# Altium schematic symbol library FTDI.SchLib: 2 symbols
Pins are listed as number, name and electrical type; pins without a type are passive.

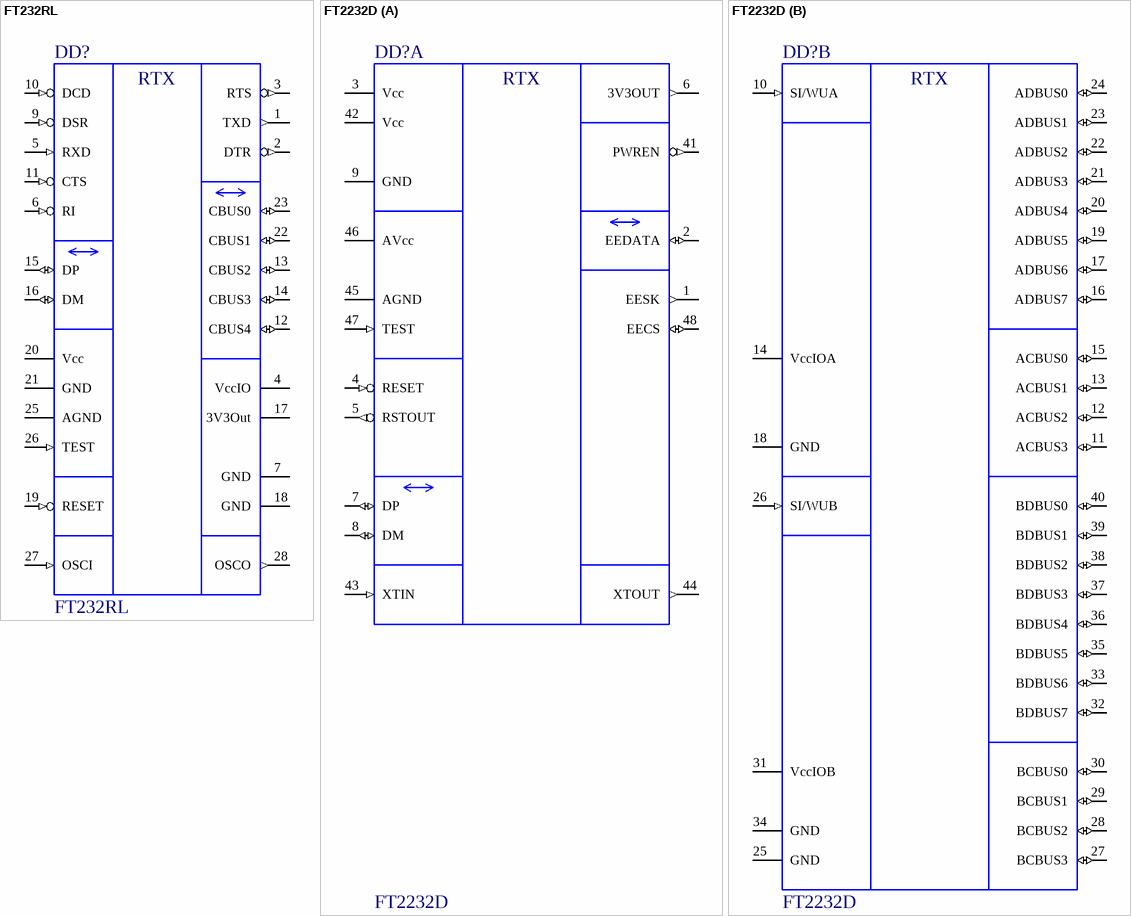
[diagram p0: symbols FT232RL to FT2232D]

## FT232RL
designator DD?
USB to UART converter; ValueSch: FT232RL
pins: 1 TXD (out), 2 DTR (out), 3 RTS (out), 4 VccIO (power), 5 RXD (in), 6 RI (in), 7 GND (power), 8 NC hidden, 9 DSR (in), 10 DCD (in), 11 CTS (in), 12 CBUS4 (io), 13 CBUS2 (io), 14 CBUS3 (io), 15 DP (io), 16 DM (io), 17 3V3Out (power), 18 GND (power), 19 RESET (in), 20 Vcc (power), 21 GND (power), 22 CBUS1 (io), 23 CBUS0 (io), 24 NC hidden, 25 AGND (power), 26 TEST (in), 27 OSCI (in), 28 OSCO (out)
text: RTX

## FT2232D
designator DD?
Dual USB to Serial UART/FIFO; ValueSch: FT2232D
part A pins: 1 EESK (out) "Clock signal to EEPROM", 2 EEDATA (io) "EEPROM Data I/O", 3 Vcc (power), 4 RESET (in) "Reset", 5 RSTOUT (out) "output of the internal Reset Generator", 6 3V3OUT (out) "Internal LDO output", 7 DP (io) "USP Data Signal Plus", 8 DM (io) "USP Data Signal Minus", 9 GND (power), 41 PWREN (out) "Device is configured via USB", 42 Vcc (power), 43 XTIN (in) "Input to crysta oscillator cell/", 44 XTOUT (out) "Output from crysta oscillator cell.", 45 AGND (power) "Analog ground supply", 46 AVcc (power) "Analog power supply", 47 TEST (in) "IC test mode", 48 EECS (io) "EEPROM Chip Select"
part B pins: 10 SI/WUA (in), 11 ACBUS3 (io), 12 ACBUS2 (io), 13 ACBUS1 (io), 14 VccIOA (power) "Vcc I/O A-Channel", 15 ACBUS0 (io), 16 ADBUS7 (io), 17 ADBUS6 (io), 18 GND (power), 19 ADBUS5 (io), 20 ADBUS4 (io), 21 ADBUS3 (io), 22 ADBUS2 (io), 23 ADBUS1 (io), 24 ADBUS0 (io), 25 GND (power), 26 SI/WUB (in), 27 BCBUS3 (io), 28 BCBUS2 (io), 29 BCBUS1 (io), 30 BCBUS0 (io), 31 VccIOB (power) "Vcc I/O B-Channel", 32 BDBUS7 (io), 33 BDBUS6 (io), 34 GND (power), 35 BDBUS5 (io), 36 BDBUS4 (io), 37 BDBUS3 (io) "BDBUS2", 38 BDBUS2 (io), 39 BDBUS1 (io), 40 BDBUS0 (io)
part A text: RTX
part B text: RTX